# Altium integrated library PESD5V0U1BA_115.IntLib: 1 symbol
Pins are listed as number, name and electrical type; pins without a type are passive.

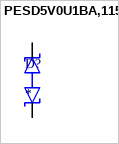
[diagram p0: symbol PESD5V0U1BA,115]

## PESD5V0U1BA,115
designator D?
ESD Suppressor Diode TVS Bi-Dir 5V Automotive 2-Pin SOD-323 T/R; MF: Nexperia; MP: PESD5V0U1BA,115; SnapEDA_Link: https://www.snapeda.com/parts/PESD5V0U1BA,115/Nexperia/view-part/?ref=snap; Package: SOD323-2 Nexperia USA Inc.; Value: *; Check_prices: https://www.snapeda.com/parts/PESD5V0U1BA,115/Nexperia/view-part/?ref=eda
footprint PESD1IVN27AX
pins: 1, 2